# EAGLE library part C64_IEC (library sj_commodore)
C64 IEC Connector
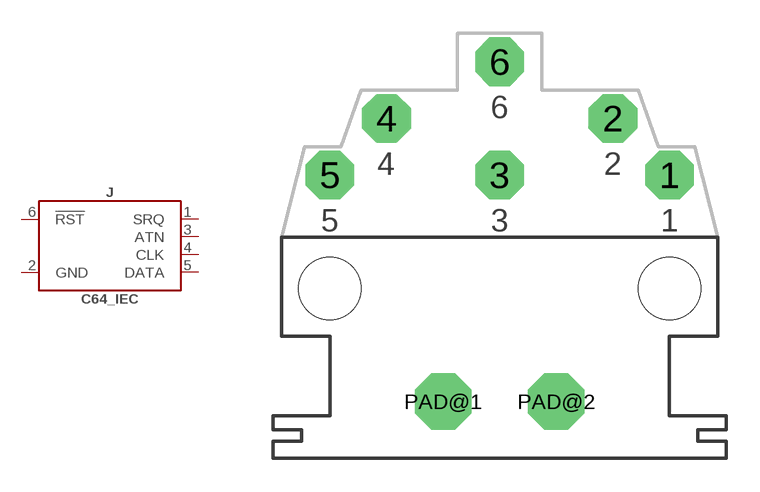
[diagram p2: symbol with the pads of C64_IEC_DIN6; footprint C64_IEC_DIN6]

Designator prefix J

## C64_IEC  [C64_IEC_DIN6]
1  SRQ
2  GND  pwr
3  ATN
4  CLK
5  DATA
6  !RST  pas

## Footprint C64_IEC_DIN6 (pad centres in mm)
6pin DIN Connector Package
drill 1.321 pad 2.184 octagon: 1 7.62,5.08; 2 5.08,7.62; 3 0,5.08; 4 -5.08,7.62; 5 -7.62,5.08; 6 0,10.16
drill 1.321 pad 2.54 octagon: PAD@1 -2.54,-5.08; PAD@2 2.54,-5.08
hole 2.794 at 7.62,0
hole 2.794 at -7.62,0